# Altium schematic symbol library Amplifier_Video.SchLib: 2 symbols
Pins are listed as number, name and electrical type; pins without a type are passive.

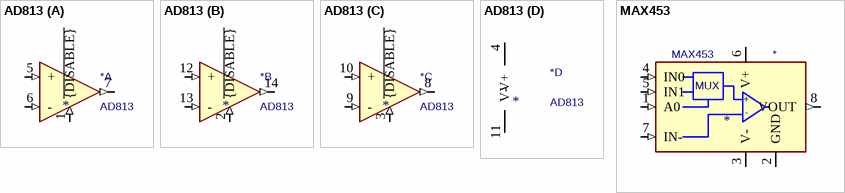
[diagram p0: symbols AD813 to MAX453]

## AD813
designator *  value AD813
ki_keywords: triple opamp; ki_description: Single Supply, Low Power, Triple Video Amplifier, DIP-14/SOIC-14; ki_fp_filters: SOIC*P1.27mm* DIP*W7.62mm*; Supplier: https://www.analog.com/media/en/technical-documentation/data-sheets/AD813.pdf
part A pins: 1 ~{{DISABLE}} (in), 5 + (in), 6 - (in), 7 (out)
part B pins: 2 ~{{DISABLE}} (in), 12 + (in), 13 - (in), 14 (out)
part C pins: 3 ~{{DISABLE}} (in), 8 (out), 9 - (in), 10 + (in)
part D pins: 4 V+ (power), 11 V- (power)

## MAX453
designator *  value MAX453
ki_keywords: amplifier; ki_description: CMOS video amplifier with input multiplexer, DIP-8/SOIC-8; ki_fp_filters: DIP*W7.62mm* SOIC*3.9x4.9mm*P1.27mm*; Supplier: https://datasheets.maximintegrated.com/en/ds/MAX452-MAX455.pdf
pins: 1 A0 (in), 2 GND (power), 3 V- (power), 4 IN0 (in), 5 IN1 (in), 6 V+ (power), 7 IN- (in), 8 VOUT (out)
text: MUX; +; -